# Altium schematic symbol library SW PUSH NO TH.Schlib: 1 symbol
Pins are listed as number, name and electrical type; pins without a type are passive.

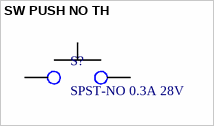
[diagram p0: symbol SW PUSH NO TH]

## SW PUSH NO TH
designator S?, comment SPST-NO 0.3A 28V
Pushbutton Switch SPST-NO Standard Through Hole; MF: E-Switch; MP: PB300STQ; Rating: 28V 0.3A; ComponentLink1Description: Digikey; ComponentLink1URL: https://www.digikey.ca/product-detail/en/e-switch/PB300STQ/EG5398-ND/6126493; ComponentLink2Description: Datasheet; ComponentLink2URL: https://sten-eswitch-13110800-production.s3.amazonaws.com/system/asset/product_line/data_sheet/222/PB300.pdf; Digikey: EG5398-ND; Digikey Link: https://www.digikey.ca/product-detail/en/e-switch/PB300STQ/EG5398-ND/6126493; Price: 3.40000 CAD
footprint PB300STQ (SWITCH PUSH SPST-NO 0.3A 28V)
pins: 1, 2